# Altium schematic symbol library Antena.SchLib: 1 symbol
Pins are listed as number, name and electrical type; pins without a type are passive.

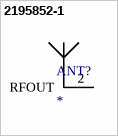
[diagram p0: symbol 2195852-1]

## 2195852-1
designator ANT?
footprint Antena
pins: 1 GND hidden, 2 RFOUT, 3 GND hidden, 4 MNT hidden